# EAGLE library part MAX232 (library pc-gen)
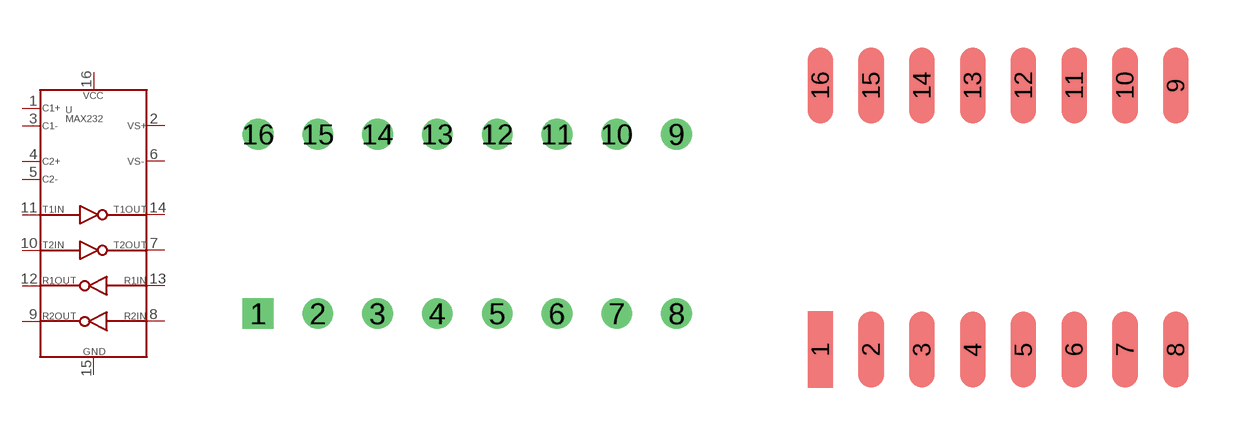
[diagram p1: symbol with the pads of DIL16; footprints DIL16, SO16]

Designator prefix -

## MAX232DIL  [DIL16]
1  C1+
2  VS+
3  C1-
4  C2+
5  C2-
6  VS-
7  T2OUT
8  R2IN
9  R2OUT
10  T2IN
11  T1IN
12  R1OUT
13  R1IN
14  T1OUT
15  GND
16  VCC

## MAX232SO  [SO16]
Pads as for DIL16

## Footprint DIL16 (pad centres in mm)
drill 0.8 square: 1 -8.89,-3.81
drill 0.8: 2 -6.35,-3.81; 3 -3.81,-3.81; 4 -1.27,-3.81; 5 1.27,-3.81; 6 3.81,-3.81; 7 6.35,-3.81; 8 8.89,-3.81; 9 8.89,3.81; 10 6.35,3.81; 11 3.81,3.81; 12 1.27,3.81; 13 -1.27,3.81; 14 -3.81,3.81; 15 -6.35,3.81; 16 -8.89,3.81

## Footprint SO16 (pad centres in mm)
smd 0.635 x 1.905: 1 -4.445,-3.302; 2 -3.175,-3.302; 3 -1.905,-3.302; 4 -0.635,-3.302; 5 0.635,-3.302; 6 1.905,-3.302; 7 3.175,-3.302; 8 4.445,-3.302; 9 4.445,3.302; 10 3.175,3.302; 11 1.905,3.302; 12 0.635,3.302; 13 -0.635,3.302; 14 -1.905,3.302; 15 -3.175,3.302; 16 -4.445,3.302